# EAGLE library part MCP3425 (library RitLaunchInitiative)
Single channel ADC http://ww1.microchip.com/downloads/en/DeviceDoc/22072b.pdf
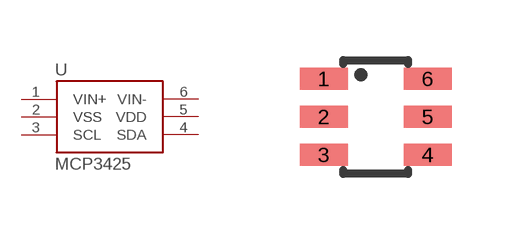
[diagram p2: symbol with the pads of SOT23-6; footprint SOT23-6]

Designator prefix -

## MCP3425  [SOT23-6]
1  VIN+
2  VSS
3  SCL
4  SDA
5  VDD
6  VIN-

## Footprint SOT23-6 (pad centres in mm)
smd 1.2 x 0.55: 1 -1.3,0.95; 2 -1.3,0; 3 -1.3,-0.95; 4 1.3,-0.95; 5 1.3,0; 6 1.3,0.95